# Altium footprint library Power_Distribution.PcbLib: 16 footprints
Each footprint in its own frame and in the unit in brackets; x right, y up, seen from the top. Pads: shape width x height; smd on the part's side, far side on the other; paste and mask are expansions set on the pad; w line width, h text height; cw(c..) or ccw(c..) is an arc to the next point about the centre after c.
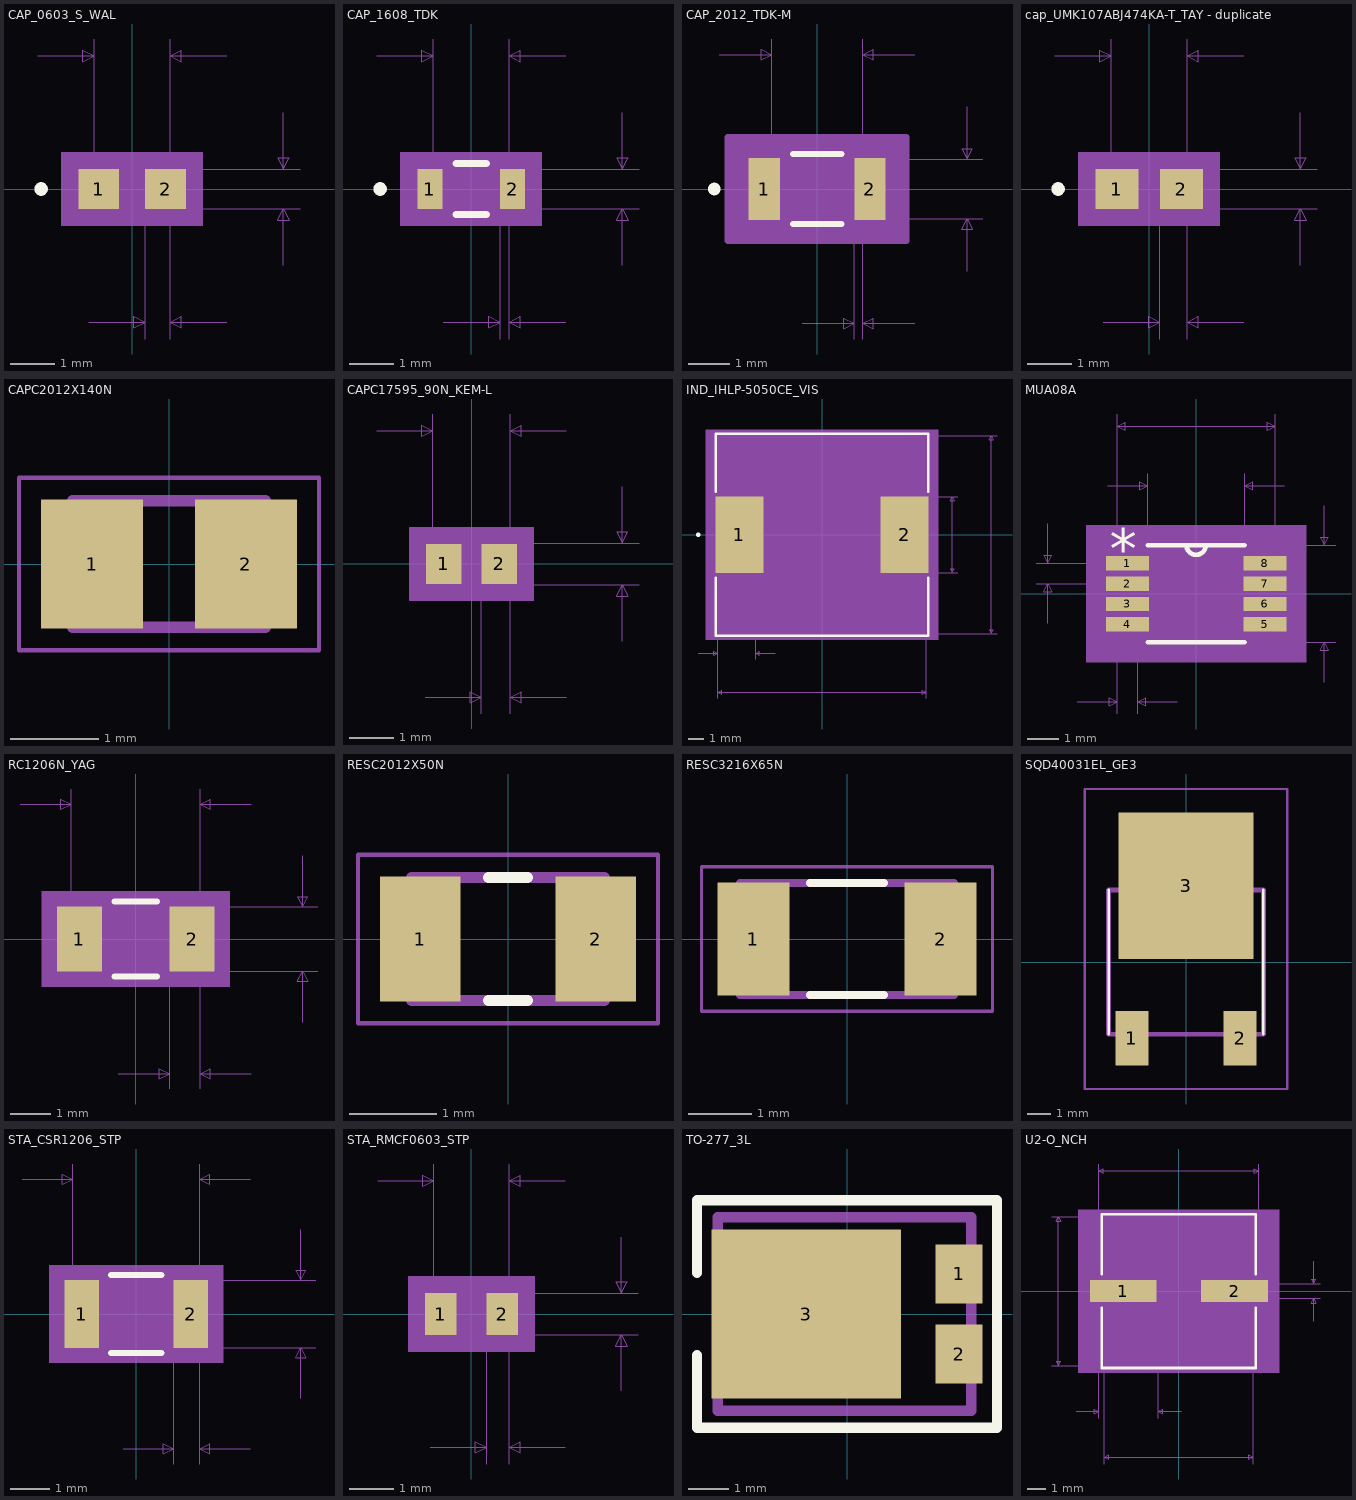
[diagram p0: the footprints below, top view; thin cyan lines are the x and y axes]

## CAP_0603_S_WAL [mil]
pads (2):
  rect 36x35 smd paste+0 mask+0: 1(-29.5,0) 2(29.5,0)
Top Overlay:
  circle w6: c-80.5,0 r3
Mechanical 5:
  region: 62.5,-32.5 -62.5,-32.5 -62.5,32.5 62.5,32.5
Mechanical 7:
  lines w1: -83.5,117.5 -33.5,117.5 ; -38.5,-117.5 11.5,-117.5 ; -33.5,0 -33.5,132.5 ; 0,-17.5 148.5,-17.5 ; 0,17.5 148.5,17.5 ; 11.5,-132.5 11.5,0 ; 33.5,-132.5 33.5,0 33.5,132.5 ; 83.5,-117.5 33.5,-117.5 ; 83.5,117.5 33.5,117.5 ; 133.5,-67.5 133.5,-17.5 ; 133.5,67.5 133.5,17.5 ; -33.5,117.5 -43.5,112.5 -43.5,122.5 -33.5,117.5 ; 11.5,-117.5 1.5,-122.5 1.5,-112.5 11.5,-117.5 ; 33.5,-117.5 43.5,-122.5 43.5,-112.5 33.5,-117.5 ; 33.5,117.5 43.5,112.5 43.5,122.5 33.5,117.5 ; 133.5,-17.5 138.5,-27.5 128.5,-27.5 133.5,-17.5 ; 133.5,17.5 138.5,27.5 128.5,27.5 133.5,17.5
  text "0.022in/0.559mm" at -71.25,-162.5 h25
  text "0.067in/1.702mm" at -93.75,137.5 h25
  text "0.035in/0.889mm" at 153.5,-12.5 h25
  text "Alternate 2 Padstyle: OX90Y60D30P" at -412.5,-487.5 h50
  text "Alternate 1 Padstyle: OX60Y90D30P" at -412.5,-387.5 h50
  text "Default Padstyle: RX36Y35D0T" at -350,-287.5 h50
Mechanical 13:
  circle w0: c-23.5,0 r3
  lines w1: -33.5,-17.5 -33.5,17.5 ; -33.5,-17.5 33.5,-17.5 ; -33.5,-17.5 -11.5,-17.5 -11.5,17.5 -33.5,17.5 ; -33.5,-17.5 -33.5,17.5 ; -33.5,17.5 33.5,17.5 ; 33.5,-17.5 33.5,17.5 ; 33.5,-17.5 33.5,17.5 ; 33.5,-17.5 11.5,-17.5 11.5,17.5 33.5,17.5
Mechanical 15:
  region: 57.5,-27.5 -57.5,-27.5 -57.5,27.5 57.5,27.5
  lines w6: -57.5,-27.5 57.5,-27.5 57.5,27.5 -57.5,27.5 -57.5,-27.5
3D body: height 10, standoff 0, extent 0,0 10,10

## CAP_1608_TDK [mil]
pads (2):
  rect 22x35 smd paste+0 mask+0: 1(-36.5,0) 2(36.5,0)
Top Overlay:
  circle w6: c-80.5,0 r3
  lines w6: -13.39,-22.5 13.39,-22.5 ; -13.39,22.5 13.39,22.5
Mechanical 5:
  region: 62.5,-32.5 -62.5,-32.5 -62.5,32.5 62.5,32.5
Mechanical 7:
  lines w1: -83.5,117.5 -33.5,117.5 ; -33.5,0 -33.5,132.5 ; -24.5,-117.5 25.5,-117.5 ; 0,-17.5 148.5,-17.5 ; 0,17.5 148.5,17.5 ; 25.5,-132.5 25.5,0 ; 33.5,-132.5 33.5,0 33.5,132.5 ; 83.5,-117.5 33.5,-117.5 ; 83.5,117.5 33.5,117.5 ; 133.5,-67.5 133.5,-17.5 ; 133.5,67.5 133.5,17.5 ; -33.5,117.5 -43.5,122.5 -43.5,112.5 -33.5,117.5 ; 25.5,-117.5 15.5,-112.5 15.5,-122.5 25.5,-117.5 ; 33.5,-117.5 43.5,-112.5 43.5,-122.5 33.5,-117.5 ; 33.5,117.5 43.5,122.5 43.5,112.5 33.5,117.5 ; 133.5,-17.5 128.5,-27.5 138.5,-27.5 133.5,-17.5 ; 133.5,17.5 128.5,27.5 138.5,27.5 133.5,17.5
  text "Default Padstyle: RX22Y35D0T" at -350,-287.5 h50
  text "Alternate 1 Padstyle: OX60Y90D30P" at -412.5,-387.5 h50
  text "Alternate 2 Padstyle: OX90Y60D30P" at -412.5,-487.5 h50
  text "0.035in/0.889mm" at 153.5,-12.5 h25
  text "0.067in/1.702mm" at -93.75,137.5 h25
  text "0.008in/0.203mm" at -64.25,-162.5 h25
Mechanical 13:
  circle w0: c-31.5,0 r3
  lines w1: -33.5,-17.5 -33.5,17.5 ; -33.5,-17.5 -25.5,-17.5 -25.5,17.5 -33.5,17.5 ; -33.5,-17.5 33.5,-17.5 ; -33.5,-17.5 -33.5,17.5 ; -33.5,17.5 33.5,17.5 ; 33.5,-17.5 25.5,-17.5 25.5,17.5 33.5,17.5 ; 33.5,-17.5 33.5,17.5 ; 33.5,-17.5 33.5,17.5
Mechanical 15:
  region: 57.5,-27.5 -57.5,-27.5 -57.5,27.5 57.5,27.5
  lines w6: -57.5,-27.5 -57.5,27.5 57.5,27.5 57.5,-27.5 -57.5,-27.5
3D body: height 10, standoff 0, extent 0,0 10,10

## CAP_2012_TDK-M [mil]
pads (2):
  rect 30x59 smd paste+0 mask+0: 1(-50.5,0) 2(50.5,0)
Top Overlay:
  circle w6: c-98.5,0 r3
  lines w6: -23.03,-33.5 23.03,-33.5 ; -23.03,33.5 23.03,33.5
Mechanical 5:
  region: 80.5,-44.5 -80.5,-44.5 -80.5,44.5 80.5,44.5
Mechanical 7:
  lines w1: -93.5,128.5 -43.5,128.5 ; -43.5,0 -43.5,143.5 ; -14.5,-128.5 35.5,-128.5 ; 0,-28.5 158.5,-28.5 ; 0,28.5 158.5,28.5 ; 35.5,-143.5 35.5,0 ; 43.5,-143.5 43.5,0 43.5,143.5 ; 93.5,-128.5 43.5,-128.5 ; 93.5,128.5 43.5,128.5 ; 143.5,-78.5 143.5,-28.5 ; 143.5,78.5 143.5,28.5 ; -43.5,128.5 -53.5,133.5 -53.5,123.5 -43.5,128.5 ; 35.5,-128.5 25.5,-123.5 25.5,-133.5 35.5,-128.5 ; 43.5,-128.5 53.5,-123.5 53.5,-133.5 43.5,-128.5 ; 43.5,128.5 53.5,133.5 53.5,123.5 43.5,128.5 ; 143.5,-28.5 138.5,-38.5 148.5,-38.5 143.5,-28.5 ; 143.5,28.5 138.5,38.5 148.5,38.5 143.5,28.5
  text "Default Padstyle: RX30Y59D0T" at -350,-299.5 h50
  text "Alternate 1 Padstyle: OX60Y90D30P" at -412.5,-399.5 h50
  text "Alternate 2 Padstyle: OX90Y60D30P" at -412.5,-499.5 h50
  text "0.057in/1.448mm" at 163.5,-12.5 h25
  text "0.087in/2.21mm" at -87.5,148.5 h25
  text "0.008in/0.203mm" at -54.25,-173.5 h25
Mechanical 13:
  circle w0: c-45.5,0 r3
  lines w1: -43.5,-28.5 -43.5,28.5 ; -43.5,-28.5 -35.5,-28.5 -35.5,28.5 -43.5,28.5 ; -43.5,-28.5 43.5,-28.5 ; -43.5,-28.5 -43.5,28.5 ; -43.5,28.5 43.5,28.5 ; 43.5,-28.5 35.5,-28.5 35.5,28.5 43.5,28.5 ; 43.5,-28.5 43.5,28.5 ; 43.5,-28.5 43.5,28.5
Mechanical 15:
  region: 85.5,-49.5 -85.5,-49.5 -85.5,49.5 85.5,49.5
  lines w6: -85.5,-49.5 -85.5,49.5 85.5,49.5 85.5,-49.5 -85.5,-49.5
3D body: height 10, standoff 0, extent 0,0 10,10

## cap_UMK107ABJ474KA-T_TAY - duplicate [mil]
pads (2):
  rect 38x35 smd paste+0 mask+0: 1(-28.5,0) 2(28.5,0)
Top Overlay:
  circle w6: c-80.5,0 r3
Mechanical 5:
  region: 62.5,-32.5 -62.5,-32.5 -62.5,32.5 62.5,32.5
Mechanical 7:
  lines w1: -83.5,117.5 -33.5,117.5 ; -40.5,-117.5 9.5,-117.5 ; -33.5,0 -33.5,132.5 ; 0,-17.5 148.5,-17.5 ; 0,17.5 148.5,17.5 ; 9.5,-132.5 9.5,0 ; 33.5,-132.5 33.5,0 33.5,132.5 ; 83.5,-117.5 33.5,-117.5 ; 83.5,117.5 33.5,117.5 ; 133.5,-67.5 133.5,-17.5 ; 133.5,67.5 133.5,17.5 ; -33.5,117.5 -43.5,112.5 -43.5,122.5 -33.5,117.5 ; 9.5,-117.5 -0.5,-122.5 -0.5,-112.5 9.5,-117.5 ; 33.5,-117.5 43.5,-122.5 43.5,-112.5 33.5,-117.5 ; 33.5,117.5 43.5,112.5 43.5,122.5 33.5,117.5 ; 133.5,-17.5 138.5,-27.5 128.5,-27.5 133.5,-17.5 ; 133.5,17.5 138.5,27.5 128.5,27.5 133.5,17.5
  text "0.024in/0.61mm" at -66,-162.5 h25
  text "0.067in/1.702mm" at -93.75,137.5 h25
  text "0.035in/0.889mm" at 153.5,-12.5 h25
  text "Alternate 2 Padstyle: OX90Y60D30P" at -412.5,-487.5 h50
  text "Alternate 1 Padstyle: OX60Y90D30P" at -412.5,-387.5 h50
  text "Default Padstyle: RX38Y35D0T" at -350,-287.5 h50
Mechanical 13:
  circle w0: c-23.5,0 r3
  lines w1: -33.5,-17.5 -33.5,17.5 ; -33.5,-17.5 33.5,-17.5 ; -33.5,-17.5 -9.5,-17.5 -9.5,17.5 -33.5,17.5 ; -33.5,-17.5 -33.5,17.5 ; -33.5,17.5 33.5,17.5 ; 33.5,-17.5 33.5,17.5 ; 33.5,-17.5 33.5,17.5 ; 33.5,-17.5 9.5,-17.5 9.5,17.5 33.5,17.5
Mechanical 15:
  region: 57.5,-27.5 -57.5,-27.5 -57.5,27.5 57.5,27.5
  lines w6: -57.5,-27.5 57.5,-27.5 57.5,27.5 -57.5,27.5 -57.5,-27.5
3D body: height 10, standoff 0, extent 0,0 10,10

## CAPC2012X140N [mm]
pads (2):
  rect 1.16x1.47 smd: 1(-0.875,0) 2(0.875,0)
Mechanical 13:
  lines w0.127: -1.1,-0.72 1.1,-0.72 1.1,0.72 -1.1,0.72 -1.1,-0.72
Mechanical 15:
  lines w0.05: -1.708,-0.983 1.708,-0.983 1.708,0.983 -1.708,0.983 -1.708,-0.983

## CAPC17595_90N_KEM-L [mil]
pads (2):
  rect 31.59x35.4 smd paste+0 mask+0: 1(-24.65,0) 2(24.65,0)
Mechanical 5:
  region: 55.45,-32.7 -55.45,-32.7 -55.45,32.7 55.45,32.7
Mechanical 7:
  lines w1: -84.45,118.7 -34.45,118.7 ; -41.14,-118.7 8.86,-118.7 ; -34.45,0 -34.45,133.7 ; 0,-18.7 149.45,-18.7 ; 0,18.7 149.45,18.7 ; 8.86,-133.7 8.86,0 ; 34.45,-133.7 34.45,0 34.45,133.7 ; 84.45,-118.7 34.45,-118.7 ; 84.45,118.7 34.45,118.7 ; 134.45,-68.7 134.45,-18.7 ; 134.45,68.7 134.45,18.7 ; -34.45,118.7 -44.45,123.7 -44.45,113.7 -34.45,118.7 ; 8.86,-118.7 -1.14,-113.7 -1.14,-123.7 8.86,-118.7 ; 34.45,-118.7 44.45,-113.7 44.45,-123.7 34.45,-118.7 ; 34.45,118.7 44.45,123.7 44.45,113.7 34.45,118.7 ; 134.45,-18.7 129.45,-28.7 139.45,-28.7 134.45,-18.7 ; 134.45,18.7 129.45,28.7 139.45,28.7 134.45,18.7
  text "Default Padstyle: RX31p59Y35p4D0T" at -412.5,-287.7 h50
  text "Alternate 1 Padstyle: OX60Y90D30P" at -412.5,-387.7 h50
  text "Alternate 2 Padstyle: OX90Y60D30P" at -412.5,-487.7 h50
  text "0.037in/0.95mm" at 154.45,-12.5 h25
  text "0.069in/1.75mm" at -87.5,138.7 h25
  text "0.02in/0.5mm" at -53.35,-163.7 h25
Mechanical 13:
  lines w1: -34.45,-18.7 -34.45,18.7 ; -34.45,-18.7 -14.76,-18.7 -14.76,18.7 -34.45,18.7 ; -34.45,-18.7 34.45,-18.7 ; -34.45,-18.7 -34.45,18.7 ; -34.45,18.7 34.45,18.7 ; 34.45,-18.7 14.76,-18.7 14.76,18.7 34.45,18.7 ; 34.45,-18.7 34.45,18.7 ; 34.45,-18.7 34.45,18.7
Mechanical 15:
  region: 44.45,-21.7 -44.45,-21.7 -44.45,21.7 44.45,21.7
  lines w6: -44.45,-21.7 -44.45,21.7 44.45,21.7 44.45,-21.7 -44.45,-21.7
3D body: height 10, standoff 0, extent 0,0 10,10

## IND_IHLP-5050CE_VIS [mil]
pads (2):
  rect 123x195 smd paste+0 mask+0: 1(-212,0) 2(212,0)
Top Overlay:
  circle w6: c-317.5,0 r3
  lines w6: -272.5,-110.6 -272.5,-259 272.5,-259 272.5,-110.6 ; -272.5,110.6 -272.5,259 272.5,259 272.5,110.6
Mechanical 5:
  region: 298.5,-269 -298.5,-269 -298.5,269 298.5,269
Mechanical 7:
  lines w1: -317.5,-304 -267.5,-304 ; -267.5,-419 -267.5,0 -267.5,-319 ; -170.5,-319 -170.5,0 ; -120.5,-304 -170.5,-304 ; 267.5,-419 267.5,0 ; 283.5,-254 448.5,-254 ; 283.5,-97.5 348.5,-97.5 ; 283.5,97.5 348.5,97.5 ; 283.5,254 448.5,254 ; -267.5,-404 -257.5,-409 -257.5,-399 -267.5,-404 ; -267.5,-404 267.5,-404 ; -267.5,-304 -277.5,-309 -277.5,-299 -267.5,-304 ; -170.5,-304 -160.5,-309 -160.5,-299 -170.5,-304 ; 267.5,-404 257.5,-409 257.5,-399 267.5,-404 ; 333.5,-97.5 338.5,-87.5 328.5,-87.5 333.5,-97.5 ; 333.5,-97.5 333.5,97.5 ; 333.5,97.5 338.5,87.5 328.5,87.5 333.5,97.5 ; 433.5,-254 438.5,-244 428.5,-244 433.5,-254 ; 433.5,-254 433.5,254 ; 433.5,254 438.5,244 428.5,244 433.5,254
  text "0.097in/2.464mm" at -312.75,-349 h25
  text "0.535in/13.589mm" at -100,-449 h25
  text "0.508in/12.903mm" at 453.5,-12.5 h25
  text "0.195in/4.953mm" at 353.5,-12.5 h25
  text "Alt 2 Padstyle: OX90Y60D30P" at -337.5,-679 h50
  text "Alt 1 Padstyle: OX60Y90D30P" at -337.5,-604 h50
  text "Default Padstyle: RX123Y195D0T" at -375,-529 h50
Mechanical 13:
  circle w0: c-247.5,0 r3
  lines w1: -267.5,-254 -267.5,254 267.5,254 267.5,-254 -267.5,-254
Mechanical 15:
  region: -277.5,-107.5 -283.5,-107.5 -283.5,107.5 -277.5,107.5 -277.5,264 277.5,264 277.5,107.5 283.5,107.5 283.5,-107.5 277.5,-107.5 277.5,-264 -277.5,-264
  lines w6: -283.5,-107.5 -277.5,-107.5 -277.5,-264 277.5,-264 277.5,-107.5 283.5,-107.5 283.5,107.5 277.5,107.5 277.5,264 -277.5,264 -277.5,107.5 -283.5,107.5 -283.5,-107.5
3D body: height 10, standoff 0, extent 0,0 10,10

## MUA08A [mil]
pads (8):
  rect 54x18 smd mask+4: 1(-86.5,38.39) 2(-86.5,12.8) 3(-86.5,-12.8) 4(-86.5,-38.39) 5(86.5,-38.39) 6(86.5,-12.8) 7(86.5,12.8) 8(86.5,38.39)
Top Overlay:
  lines w6: -61,-61 61,-61 ; -61,61 61,61 ; -12,61 ccw(c0,61) 12,61
  text "*" at -109,32.39 h50
Mechanical 5:
  region: 138.5,-86 -138.5,-86 -138.5,86 138.5,86
Mechanical 7:
  lines w1: -201.5,12.8 -86.5,12.8 ; -201.5,38.39 -86.5,38.39 ; -186.5,-37.2 -186.5,12.8 ; -186.5,88.39 -186.5,38.39 ; -149.5,-136 -99.5,-136 ; -111,136 -61,136 ; -99.5,-151 -99.5,0 -99.5,226 ; -73.5,-151 -73.5,0 ; -61,0 -61,151 ; -23.5,-136 -73.5,-136 ; 0,-61 176,-61 ; 0,61 176,61 ; 61,0 61,151 ; 99.5,0 99.5,226 ; 111,136 61,136 ; 161,-111 161,-61 ; 161,111 161,61 ; -186.5,12.8 -191.5,2.8 -181.5,2.8 -186.5,12.8 ; -186.5,38.39 -191.5,48.39 -181.5,48.39 -186.5,38.39 ; -99.5,-136 -109.5,-131 -109.5,-141 -99.5,-136 ; -99.5,211 99.5,211 ; -99.5,211 -89.5,216 -89.5,206 -99.5,211 ; -73.5,-136 -63.5,-131 -63.5,-141 -73.5,-136 ; -61,136 -71,141 -71,131 -61,136 ; 61,136 71,141 71,131 61,136 ; 99.5,211 89.5,216 89.5,206 99.5,211 ; 161,-61 156,-71 166,-71 161,-61 ; 161,61 156,71 166,71 161,61
  text "Default Padstyle: RX54Y18D0T" at -350,-261 h50
  text ".122in/3.099mm" at -87.5,156 h25
  text ".199in/5.055mm" at -87.5,231 h25
  text ".122in/3.099mm" at 181,-12.5 h25
  text "2.559055E-02in/.65mm" at -456.5,13.09 h25
  text ".026in/.66mm" at -161.5,-181 h25
Mechanical 13:
  lines w0: -12,61 ccw(c0,61) 12,61
  lines w1: -99.5,-46.39 -99.5,-30.39 -61,-30.39 -61,-46.39 -99.5,-46.39 ; -99.5,-20.8 -99.5,-4.8 -61,-4.8 -61,-20.8 -99.5,-20.8 ; -99.5,4.8 -99.5,20.8 -61,20.8 -61,4.8 -99.5,4.8 ; -99.5,30.39 -99.5,46.39 -61,46.39 -61,30.39 -99.5,30.39 ; -61,-61 -61,61 61,61 61,-61 -61,-61 ; 61,-46.39 61,-30.39 99.5,-30.39 99.5,-46.39 61,-46.39 ; 61,-20.8 61,-4.8 99.5,-4.8 99.5,-20.8 61,-20.8 ; 61,4.8 61,20.8 99.5,20.8 99.5,4.8 61,4.8 ; 61,30.39 61,46.39 99.5,46.39 99.5,30.39 61,30.39
  text "*" at -109,32.39 h50
Mechanical 15:
  region: 123.5,-71 -123.5,-71 -123.5,71 123.5,71
  lines w6: -123.5,-71 -123.5,71 123.5,71 123.5,-71 -123.5,-71
3D body: height 10, standoff 0, extent 0,0 10,10

## RC1206N_YAG [mil]
pads (2):
  rect 44x63 smd paste+0 mask+0: 1(-55,0) 2(55,0)
Top Overlay:
  lines w6: -20.89,-36.5 20.89,-36.5 ; -20.89,36.5 20.89,36.5
Mechanical 5:
  region: 92,-46.5 -92,-46.5 -92,46.5 92,46.5
Mechanical 7:
  lines w1: -113,131.5 -63,131.5 ; -63,0 -63,146.5 ; -17,-131.5 33,-131.5 ; 0,-31.5 178,-31.5 ; 0,31.5 178,31.5 ; 33,-146.5 33,0 ; 63,-146.5 63,0 63,146.5 ; 113,-131.5 63,-131.5 ; 113,131.5 63,131.5 ; 163,-81.5 163,-31.5 ; 163,81.5 163,31.5 ; -63,131.5 -73,126.5 -73,136.5 -63,131.5 ; 33,-131.5 23,-136.5 23,-126.5 33,-131.5 ; 63,-131.5 73,-136.5 73,-126.5 63,-131.5 ; 63,131.5 73,126.5 73,136.5 63,131.5 ; 163,-31.5 168,-41.5 158,-41.5 163,-31.5 ; 163,31.5 168,41.5 158,41.5 163,31.5
  text "0.03in/0.762mm" at -39.5,-176.5 h25
  text "0.126in/3.2mm" at -81.25,151.5 h25
  text "0.063in/1.6mm" at 183,-12.5 h25
  text "Alternate 2 Padstyle: OX90Y60D30P" at -412.5,-501.5 h50
  text "Alternate 1 Padstyle: OX60Y90D30P" at -412.5,-401.5 h50
  text "Default Padstyle: RX44Y63D0T" at -350,-301.5 h50
Mechanical 13:
  lines w1: -63,-31.5 -63,31.5 ; -63,-31.5 63,-31.5 ; -63,-31.5 -33,-31.5 -33,31.5 -63,31.5 ; -63,-31.5 -63,31.5 ; -63,31.5 63,31.5 ; 63,-31.5 63,31.5 ; 63,-31.5 63,31.5 ; 63,-31.5 33,-31.5 33,31.5 63,31.5
Mechanical 15:
  region: 87,-41.5 -87,-41.5 -87,41.5 87,41.5
  lines w6: -87,-41.5 87,-41.5 87,41.5 -87,41.5 -87,-41.5
3D body: height 10, standoff 0, extent 0,0 10,10

## RESC2012X50N [mm]
pads (2):
  rect 0.92x1.42 smd: 1(-1,0) 2(1,0)
Top Overlay:
  lines w0.127: -0.22,-0.7 0.22,-0.7 ; -0.22,0.7 0.22,0.7
Mechanical 13:
  lines w0.127: -1.1,-0.7 -1.1,0.7 1.1,0.7 1.1,-0.7 -1.1,-0.7
Mechanical 15:
  lines w0.05: -1.71,-0.96 -1.71,0.96 1.71,0.96 1.71,-0.96 -1.71,-0.96

## RESC3216X65N [mm]
pads (2):
  rect 1.13x1.77 smd: 1(-1.47,0) 2(1.47,0)
Top Overlay:
  lines w0.127: -0.58,-0.88 0.58,-0.88 ; -0.58,0.88 0.58,0.88
Mechanical 13:
  lines w0.127: -1.68,-0.88 -1.68,0.88 1.68,0.88 1.68,-0.88 -1.68,-0.88
Mechanical 15:
  lines w0.05: -2.285,-1.135 -2.285,1.135 2.285,1.135 2.285,-1.135 -2.285,-1.135

## SQD40031EL_GE3 [mil]
pads (3):
  rect 55x90 smd: 1(-90,-126.69) 2(90,-126.69)
  rect 224.02x243.31 smd: 3(0,126.65)
Top Overlay:
  lines w3.94: -128.74,-119.96 -128.74,119.96 ; 128.74,-119.96 128.74,119.96
Mechanical 13:
  lines w7.87: -128.74,-119.96 128.74,-119.96 128.74,119.96 -128.74,119.96 -128.74,-119.96
Mechanical 15:
  lines w3.94: -168.11,-211.06 168.11,-211.06 168.11,287.72 -168.11,287.72 -168.11,-211.06
3D body "SQD40031EL_GE3.stp": height 97.64, standoff 0, extent -128.74,-166.19 128.74,225.91

## STA_CSR1206_STP [mil]
pads (2):
  rect 34x67 smd paste+0 mask+0: 1(-54,0) 2(54,0)
Top Overlay:
  lines w6: -24.89,-38.5 24.89,-38.5 ; -24.89,38.5 24.89,38.5
Mechanical 5:
  region: 86,-48.5 -86,-48.5 -86,48.5 86,48.5
Mechanical 7:
  lines w1: -113,133.5 -63,133.5 ; -63,0 -63,148.5 ; -13,-133.5 37,-133.5 ; 0,-33.5 178,-33.5 ; 0,33.5 178,33.5 ; 37,-148.5 37,0 ; 63,-148.5 63,0 63,148.5 ; 113,-133.5 63,-133.5 ; 113,133.5 63,133.5 ; 163,-83.5 163,-33.5 ; 163,83.5 163,33.5 ; -63,133.5 -73,138.5 -73,128.5 -63,133.5 ; 37,-133.5 27,-128.5 27,-138.5 37,-133.5 ; 63,-133.5 73,-128.5 73,-138.5 63,-133.5 ; 63,133.5 73,138.5 73,128.5 63,133.5 ; 163,-33.5 158,-43.5 168,-43.5 163,-33.5 ; 163,33.5 158,43.5 168,43.5 163,33.5
  text "Default Padstyle: RX34Y67D0T" at -350,-303.5 h50
  text "Alt 1 Padstyle: OX60Y90D30P" at -337.5,-363.5 h50
  text "Alt 2 Padstyle: OX90Y60D30P" at -337.5,-423.5 h50
  text "0.067in/1.702mm" at 183,-12.5 h25
  text "0.126in/3.2mm" at -81.25,153.5 h25
  text "0.026in/0.66mm" at -37.5,-178.5 h25
Mechanical 13:
  lines w1: -63,-33.5 -63,33.5 ; -63,-33.5 -37,-33.5 -37,33.5 -63,33.5 ; -63,-33.5 63,-33.5 ; -63,-33.5 -63,33.5 ; -63,33.5 63,33.5 ; 63,-33.5 37,-33.5 37,33.5 63,33.5 ; 63,-33.5 63,33.5 ; 63,-33.5 63,33.5
Mechanical 15:
  region: 81,-43.5 -81,-43.5 -81,43.5 81,43.5
  lines w6: -81,-43.5 -81,43.5 81,43.5 81,-43.5 -81,-43.5
3D body: height 10, standoff 0, extent 0,0 10,10

## STA_RMCF0603_STP [mil]
pads (2):
  rect 28x37 smd paste+0 mask+0: 1(-27.5,0) 2(27.5,0)
Mechanical 5:
  region: 56.5,-33.5 -56.5,-33.5 -56.5,33.5 56.5,33.5
Mechanical 7:
  lines w1: -83.5,118.5 -33.5,118.5 ; -36.5,-118.5 13.5,-118.5 ; -33.5,0 -33.5,133.5 ; 0,-18.5 148.5,-18.5 ; 0,18.5 148.5,18.5 ; 13.5,-133.5 13.5,0 ; 33.5,-133.5 33.5,0 33.5,133.5 ; 83.5,-118.5 33.5,-118.5 ; 83.5,118.5 33.5,118.5 ; 133.5,-68.5 133.5,-18.5 ; 133.5,68.5 133.5,18.5 ; -33.5,118.5 -43.5,123.5 -43.5,113.5 -33.5,118.5 ; 13.5,-118.5 3.5,-113.5 3.5,-123.5 13.5,-118.5 ; 33.5,-118.5 43.5,-113.5 43.5,-123.5 33.5,-118.5 ; 33.5,118.5 43.5,123.5 43.5,113.5 33.5,118.5 ; 133.5,-18.5 128.5,-28.5 138.5,-28.5 133.5,-18.5 ; 133.5,18.5 128.5,28.5 138.5,28.5 133.5,18.5
  text "Default Padstyle: RX28Y37D0T" at -350,-288.5 h50
  text "Alt 1 Padstyle: OX60Y90D30P" at -337.5,-348.5 h50
  text "Alt 2 Padstyle: OX90Y60D30P" at -337.5,-408.5 h50
  text "0.037in/0.94mm" at 153.5,-12.5 h25
  text "0.067in/1.702mm" at -93.75,138.5 h25
  text "0.02in/0.508mm" at -64,-163.5 h25
Mechanical 13:
  lines w1: -33.5,-18.5 -33.5,18.5 ; -33.5,-18.5 -13.5,-18.5 -13.5,18.5 -33.5,18.5 ; -33.5,-18.5 33.5,-18.5 ; -33.5,-18.5 -33.5,18.5 ; -33.5,18.5 33.5,18.5 ; 33.5,-18.5 13.5,-18.5 13.5,18.5 33.5,18.5 ; 33.5,-18.5 33.5,18.5 ; 33.5,-18.5 33.5,18.5
Mechanical 15:
  region: 51.5,-28.5 -51.5,-28.5 -51.5,28.5 51.5,28.5
  lines w6: -51.5,-28.5 -51.5,28.5 51.5,28.5 51.5,-28.5 -51.5,-28.5
3D body: height 10, standoff 0, extent 0,0 10,10

## TO-277_3L [mm]
pads (3):
  rect 1.15x1.45 smd: 1(2.75,0.985) 2(2.75,-0.985)
  rect 4.65x4.15 smd: 3(-1,0)
Top Overlay:
  lines w0.254: -3.683,-1.016 -3.683,-2.794 3.683,-2.794 3.683,2.794 -3.683,2.794 -3.683,1.016
Mechanical 13:
  lines w0.254: -3.175,-2.375 3.048,-2.375 3.048,2.375 -3.175,2.375 -3.175,-2.375

## U2-O_NCH [mil]
pads (2):
  rect 146x48 smd paste+0 mask+0: 1(-122,0) 2(122,0)
Top Overlay:
  lines w6: -168.5,-37.1 -168.5,-168.5 168.5,-168.5 168.5,-37.1 ; -168.5,37.1 -168.5,168.5 168.5,168.5 168.5,37.1
Mechanical 5:
  region: 220,-178.5 -220,-178.5 -220,178.5 220,178.5
Mechanical 7:
  lines w1: -278.5,-163.5 -163.5,-163.5 -163.5,-378.5 ; -278.5,163.5 -163.5,163.5 ; -225,-263.5 -175,-263.5 ; -175,-278.5 -175,-34 ; -175,34 -175,278.5 ; -45,-278.5 -45,-14 ; 5,-263.5 -45,-263.5 ; 163.5,-378.5 163.5,-163.5 ; 175,34 175,278.5 ; 205,-16 310,-16 ; 205,16 310,16 ; 295,-66 295,-16 ; 295,66 295,16 ; -263.5,-163.5 -258.5,-153.5 -268.5,-153.5 -263.5,-163.5 ; -263.5,-163.5 -263.5,163.5 ; -263.5,163.5 -258.5,153.5 -268.5,153.5 -263.5,163.5 ; -175,-263.5 -185,-268.5 -185,-258.5 -175,-263.5 ; -175,263.5 -165,258.5 -165,268.5 -175,263.5 ; -175,263.5 175,263.5 ; -163.5,-363.5 -153.5,-368.5 -153.5,-358.5 -163.5,-363.5 ; -163.5,-363.5 163.5,-363.5 ; -45,-263.5 -35,-268.5 -35,-258.5 -45,-263.5 ; 163.5,-363.5 153.5,-368.5 153.5,-358.5 163.5,-363.5 ; 175,263.5 165,258.5 165,268.5 175,263.5 ; 295,-16 300,-26 290,-26 295,-16 ; 295,16 300,26 290,26 295,16
  text "0.327in/8.306mm" at -93.75,-408.5 h25
  text "0.13in/3.302mm" at -197.5,-308.5 h25
  text "0.327in/8.306mm" at -471,-12.5 h25
  text "0.35in/8.89mm" at -81.25,283.5 h25
  text "0.032in/0.813mm" at 315,-12.5 h25
  text "Alternate 2 Padstyle: OX90Y60D30P" at -412.5,-651 h50
  text "Alternate 1 Padstyle: OX60Y90D30P" at -412.5,-551 h50
  text "Default Padstyle: RX146Y48D0T" at -362.5,-451 h50
Mechanical 13:
  lines w1: -163.5,-81.75 -81.75,-163.5 ; -163.5,81.75 -81.75,163.5 ; -163.5,-163.5 -163.5,163.5 163.5,163.5 163.5,-163.5 -163.5,-163.5
Mechanical 15:
  region: -173.5,-34 -205,-34 -205,34 -173.5,34 -173.5,173.5 173.5,173.5 173.5,34 205,34 205,-34 173.5,-34 173.5,-173.5 -173.5,-173.5
  lines w6: -205,-34 -173.5,-34 -173.5,-173.5 173.5,-173.5 173.5,-34 205,-34 205,34 173.5,34 173.5,173.5 -173.5,173.5 -173.5,34 -205,34 -205,-34
3D body: height 10, standoff 0, extent 0,0 10,10